# EAGLE library part 618015233821 (library EagleLibrary_Wuerth_Elektronik_eiCan_Communication_Connectors_v6_20150113)
WR-DSUB 10.3mm Female Angled PCB Connector without Hex Screw, 15 Pins=>Code : Con_I-O_DSUB_PCB_Female_wo-screw_618015233821 <http://katalog.we-online.de/media/images/eican/Con_I-O_DSUB_PCB_Female_wo-screw_6180xx233821_pf2.jpg> Details see: http://katalog.we-online.de/en/em/618_0xx_233_821 Created 2014-07-10, Karrer Zheng 2014 (C) Würth Elektronik
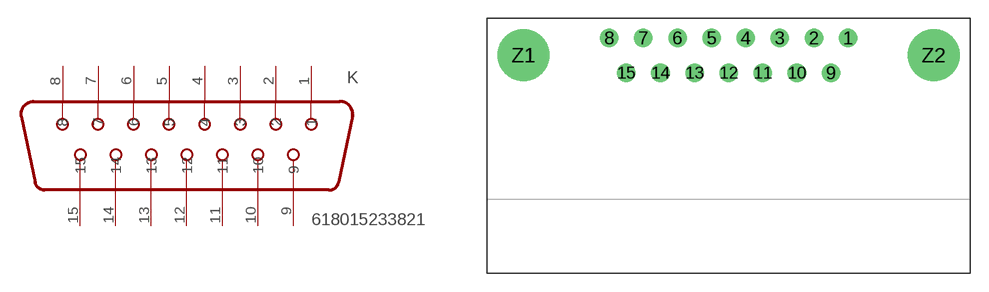
[diagram p45: symbol with the pads of 618015233821; footprint 618015233821]

Designator prefix K

## 618015233821  [618015233821]
1  1
2  2
3  3
4  4
5  5
6  6
7  7
8  8
9  9
10  10
11  11
12  12
13  13
14  14
15  15

## Footprint 618015233821 (pad centres in mm)
WR-DSUB 10.3mm Female Angled PCB Connector without Hex Screw, 15 Pins
drill 1: 1 9.695,1.42; 2 6.925,1.42; 3 4.155,1.42; 4 1.385,1.42; 5 -1.385,1.42; 6 -4.155,1.42; 7 -6.925,1.42; 8 -9.695,1.42; 9 8.31,-1.42; 10 5.54,-1.42; 11 2.77,-1.42; 12 0,-1.42; 13 -2.77,-1.42; 14 -5.54,-1.42; 15 -8.31,-1.42
drill 3.2: Z1 -16.65,0; Z2 16.65,0